# Altium schematic symbol library LM2734.SchLib: 1 symbol
Pins are listed as number, name and electrical type; pins without a type are passive.

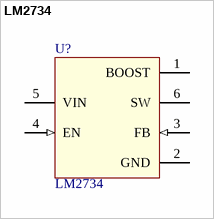
[diagram p0: symbol LM2734]

## LM2734
designator U?
value: LM2734
footprint SOT23-6
pins: 1 BOOST, 2 GND (power), 3 FB (in), 4 EN (in), 5 VIN (power), 6 SW